# EAGLE library part LAYERONE_2017_TI-BQ2407X (library LayerOne_2017)
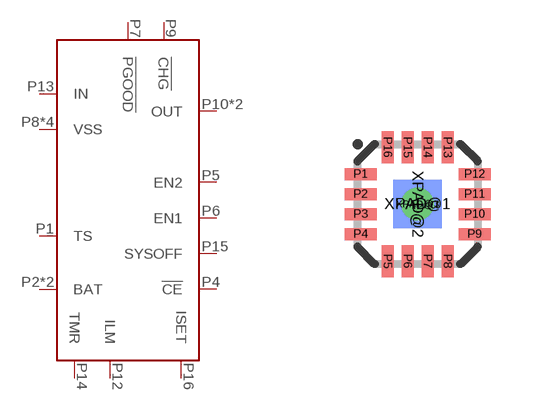
[diagram p2: symbol with the pads of LAYERONE_2017_QFN16; footprint LAYERONE_2017_QFN16]

Designator prefix -

## LAYERONE_2017_TI-BQ2407XBQ24075  [LAYERONE_2017_QFN16]
P1  TS  in
P2  BAT  pwr
P3  BAT  pwr
P4  !CE
P5  EN2  pwr
P6  EN1  in
P7  !PGOOD  out
P8  VSS  pwr
P9  !CHG  out
P10  OUT  pwr
P11  OUT  pwr
P12  ILM  in
P13  IN  pwr
P14  TMR  in
P15  SYSOFF
P16  ISET  in
XPAD@1  VSS  pwr
XPAD@2  VSS  pwr
XPAD@3  VSS  pwr

## Footprint LAYERONE_2017_QFN16 (pad centres in mm)
smd 0.8 x 0.3: P1 -1.425,0.75; P2 -1.425,0.25; P3 -1.425,-0.25; P4 -1.425,-0.75; P9 1.425,-0.75; P10 1.425,-0.25; P11 1.425,0.25; P12 1.425,0.75
smd 0.3 x 0.8: P5 -0.75,-1.425; P6 -0.25,-1.425; P7 0.25,-1.425; P8 0.75,-1.425; P13 0.75,1.425; P14 0.25,1.425; P15 -0.25,1.425; P16 -0.75,1.425
smd 1.22 x 1.22: XPAD@1 0,0
smd 1.22 x 1.22 bottom: XPAD@2 0,0
drill 0.305: XPAD@3 0,0